# EAGLE library part ICS-43432 (library Audio-Devices)
Low-Noise Microphone with I2S Digital Output Datasheet <https://invensense.tdk.com/wp-content/uploads/2015/02/ICS-43432_DS.pdf>
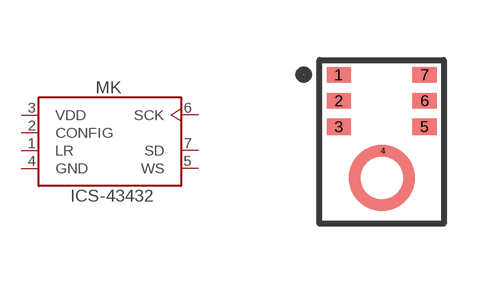
[diagram p0: symbol with the pads of ICS-43432; footprint ICS-43432]

Designator prefix MK

## ICS-43432 (CATEGORY: Audio-Devices; DESCRIPTION: Low-Noise Microphone with I2 S Digital Output; MANUFACTURER: InvenSense; MPN: ICS-43432; OPERATING_TEMPERATURE: −40°C to +85°C; PART_STATUS: ACTIVE; ROHS_COMPLIANCE: RoHS Compliant; SUB-CATEGORY: Microphone; TYPE: MEMS; VALUE: 50 Hz to 20 kHz)  [ICS-43432]
1  LR
2  CONFIG
3  VDD
4  GND
5  WS
6  SCK
7  SD

## Footprint ICS-43432 (pad centres in mm)
smd 0.6 x 0.4: 1 -1.075,1.675; 2 -1.075,1.025; 3 -1.075,0.375; 5 1.075,0.375; 6 1.075,1.025; 7 1.075,1.675
smd 0.1 x 0.1: 4 0.025,-0.225